# Altium footprint library 691 216 910 0xx.PcbLib: 2 footprints
Each footprint in its own frame and in the unit in brackets; x right, y up, seen from the top. Pads: shape width x height; smd on the part's side, far side on the other; paste and mask are expansions set on the pad; w line width, h text height; cw(c..) or ccw(c..) is an arc to the next point about the centre after c.
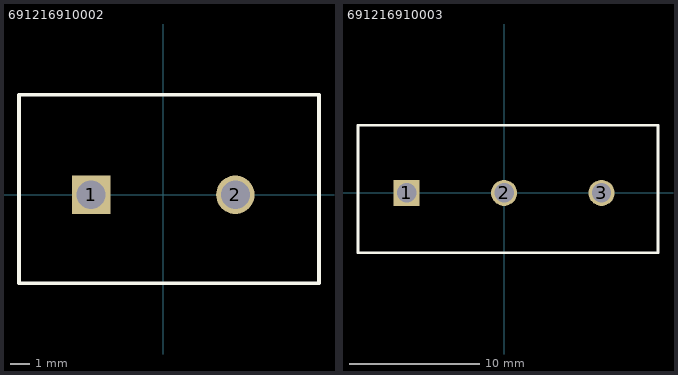
[diagram p0: the footprints below, top view; thin cyan lines are the x and y axes]

## 691216910002 [mm] "Serie 2169 - 7.50 mm _ 2 pins"
height 13.8
pads (2):
  rect 2x2 hole 1.5: 1(-3.75,0)
  round 2 hole 1.5: 2(3.75,0)
Top Overlay:
  lines w0.2: -7.5,-4.6 8.1,-4.6 8.1,5.2 -7.5,5.2 -7.5,-4.6
3D body: height 13.85, standoff -3.45, extent -7.55,-4.6 8.05,5.2

## 691216910003 [mm] "Serie 2169 - 7.50 mm _ 3 pins"
height 13.8
pads (3):
  rect 2x2 hole 1.5: 1(-7.5,0)
  round 2 hole 1.5: 2(0,0) 3(7.5,0)
Top Overlay:
  lines w0.2: -11.25,-4.6 -11.25,5.2 11.85,5.2 11.85,-4.6 -11.25,-4.6
3D body: height 13.85, standoff -3.45, extent -11.3,-4.6 11.8,5.2